# EAGLE library part PINTO (library MAAV)
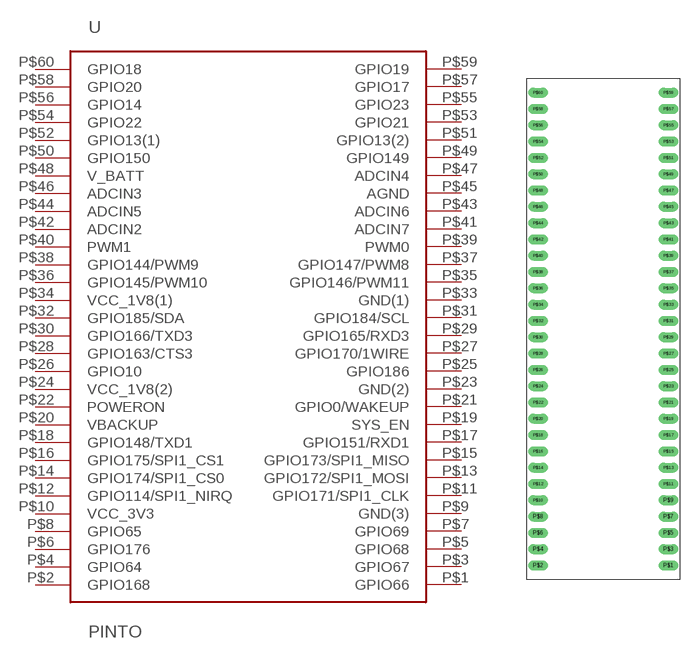
[diagram p6: symbol with the pads of PINTO; footprint PINTO]

Designator prefix U

## PINTO  [PINTO]
P$1  GPIO66
P$2  GPIO168
P$3  GPIO67
P$4  GPIO64
P$5  GPIO68
P$6  GPIO176
P$7  GPIO69
P$8  GPIO65
P$9  GND(3)
P$10  VCC_3V3
P$11  GPIO171/SPI1_CLK
P$12  GPIO114/SPI1_NIRQ
P$13  GPIO172/SPI1_MOSI
P$14  GPIO174/SPI1_CS0
P$15  GPIO173/SPI1_MISO
P$16  GPIO175/SPI1_CS1
P$17  GPIO151/RXD1
P$18  GPIO148/TXD1
P$19  SYS_EN
P$20  VBACKUP
P$21  GPIO0/WAKEUP
P$22  POWERON
P$23  GND(2)
P$24  VCC_1V8(2)
P$25  GPIO186
P$26  GPIO10
P$27  GPIO170/1WIRE
P$28  GPIO163/CTS3
P$29  GPIO165/RXD3
P$30  GPIO166/TXD3
P$31  GPIO184/SCL
P$32  GPIO185/SDA
P$33  GND(1)
P$34  VCC_1V8(1)
P$35  GPIO146/PWM11
P$36  GPIO145/PWM10
P$37  GPIO147/PWM8
P$38  GPIO144/PWM9
P$39  PWM0
P$40  PWM1
P$41  ADCIN7
P$42  ADCIN2
P$43  ADCIN6
P$44  ADCIN5
P$45  AGND
P$46  ADCIN3
P$47  ADCIN4
P$48  V_BATT
P$49  GPIO149
P$50  GPIO150
P$51  GPIO13(2)
P$52  GPIO13(1)
P$53  GPIO21
P$54  GPIO22
P$55  GPIO23
P$56  GPIO14
P$57  GPIO17
P$58  GPIO20
P$59  GPIO19
P$60  GPIO18

## Footprint PINTO (pad centres in mm)
drill 1.016 long: P$1 10.16,-36.83; P$2 -10.16,-36.83; P$3 10.16,-34.29; P$4 -10.16,-34.29; P$5 10.16,-31.75; P$6 -10.16,-31.75; P$7 10.16,-29.21; P$8 -10.16,-29.21; P$9 10.16,-26.67; P$10 -10.16,-26.67; P$11 10.16,-24.13; P$12 -10.16,-24.13; P$13 10.16,-21.59; P$14 -10.16,-21.59; P$15 10.16,-19.05; P$16 -10.16,-19.05; P$17 10.16,-16.51; P$18 -10.16,-16.51; P$19 10.16,-13.97; P$20 -10.16,-13.97; P$21 10.16,-11.43; P$22 -10.16,-11.43; P$23 10.16,-8.89; P$24 -10.16,-8.89; P$25 10.16,-6.35; P$26 -10.16,-6.35; P$27 10.16,-3.81; P$28 -10.16,-3.81; P$29 10.16,-1.27; P$30 -10.16,-1.27; P$31 10.16,1.27; P$32 -10.16,1.27; P$33 10.16,3.81; P$34 -10.16,3.81; P$35 10.16,6.35; P$36 -10.16,6.35; P$37 10.16,8.89; P$38 -10.16,8.89; P$39 10.16,11.43; P$40 -10.16,11.43; P$41 10.16,13.97; P$42 -10.16,13.97; P$43 10.16,16.51; P$44 -10.16,16.51; P$45 10.16,19.05; P$46 -10.16,19.05; P$47 10.16,21.59; P$48 -10.16,21.59; P$49 10.16,24.13; P$50 -10.16,24.13; P$51 10.16,26.67; P$52 -10.16,26.67; P$53 10.16,29.21; P$54 -10.16,29.21; P$55 10.16,31.75; P$56 -10.16,31.75; P$57 10.16,34.29; P$58 -10.16,34.29; P$59 10.16,36.83; P$60 -10.16,36.83